# Altium footprint library Power.PcbLib: 17 footprints (part 1 of 2)
Each footprint in its own frame and in the unit in brackets; x right, y up, seen from the top. Pads: shape width x height; smd on the part's side, far side on the other; paste and mask are expansions set on the pad; w line width, h text height; cw(c..) or ccw(c..) is an arc to the next point about the centre after c.
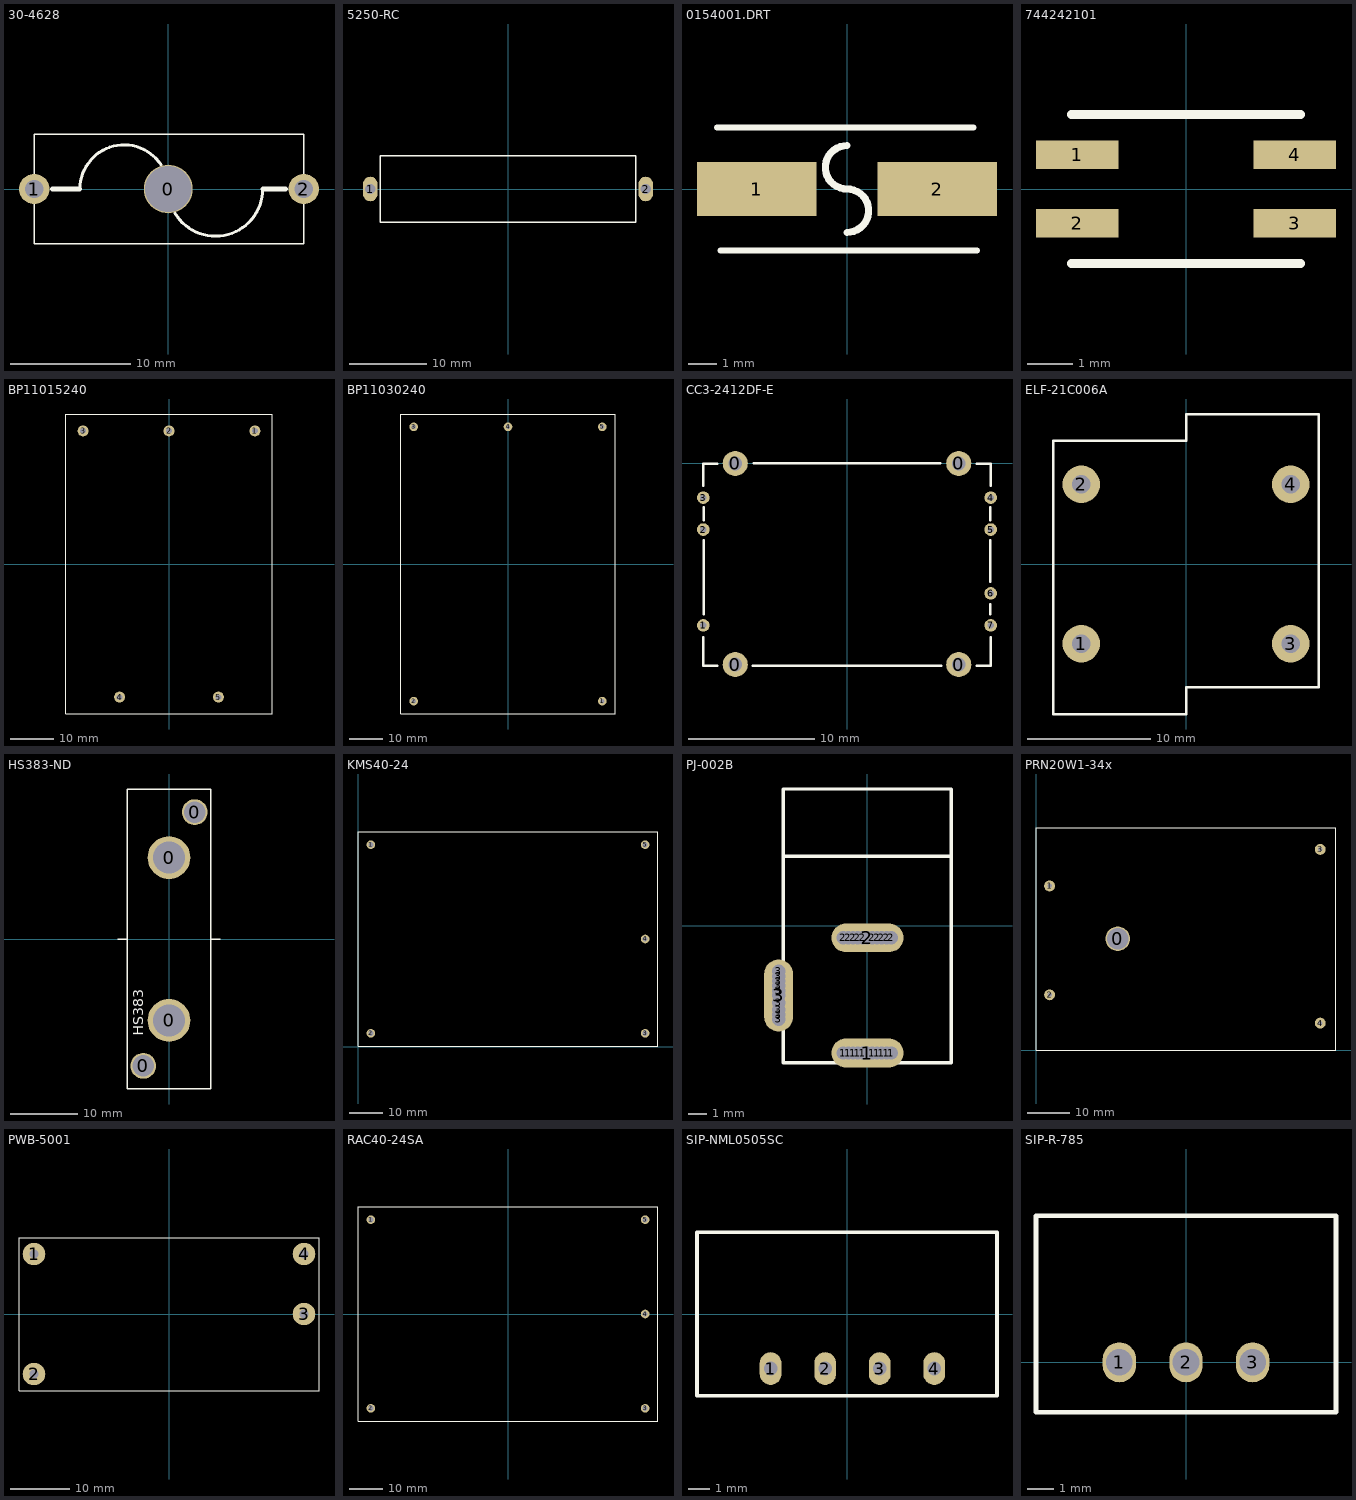
[diagram p0: the footprints below, top view; thin cyan lines are the x and y axes]

## 30-4628 [mil]
pads (3):
  round 160 / inner round 152 / far side round 160 hole 152: 0(0,0)
  round 100 / inner round 60 / far side round 100 hole 60: 1(-440,0) 2(445,0)
TopOverlay:
  lines w5: -440,-180 445,-180 445,180 -440,180 -440,-180
  lines w10: -290,0 cw(c-145,0) -23.55,79.21 ; 21.66,-79.02 ccw(c155,0) 310,0
  lines w15: -380,0 -290,0 ; 310,0 385,0

## 5250-RC [mil] "Choke"
height 340
pads (2):
  oval 75x125 hole 52: 1(-700,0) 2(700,0)
TopOverlay:
  lines w8: -650,-170 -650,170 650,170 650,-170 -650,-170

## 0154001.DRT [mil]
pads (2):
  rect 165x75 smd: 1(-125,0) 2(125,0)
TopOverlay:
  lines w8: -180,85 175,85 ; -175,-85 180,-85
  lines w10: 0,-60 ccw(c0,-30) 0,0 cw(c0,30) 0,60
3D body: height 147.51, standoff 1.84, extent -190.94,-98.42 190.95,98.43

## 744242101 [mil] "Common Mode Choke"
height 130
pads (4):
  rect 72x25 smd: 1(-95,30) 2(-95,-30) 3(95,-30) 4(95,30)
TopOverlay:
  lines w8: -100,-65 100,-65 ; -100,65 100,65

## BP11015240 [mil]
pads (5):
  round 100 / inner round 52 / far side round 100 hole 52: 1(788,1220) 2(0,1220) 3(-788,1220) 4(-453,-1220) 5(453,-1220)
TopOverlay:
  lines w7: -945,-1375 -945,1375 945,1375 945,-1375 -945,-1375

## BP11030240 [mil]
pads (5):
  round 100 / inner round 52 / far side round 100 hole 52: 1(1100,-1600) 2(-1100,-1600) 3(-1100,1600) 4(0,1600) 5(1100,1600)
TopOverlay:
  lines w7: -1250,-1750 -1250,1750 1250,1750 1250,-1750 -1250,-1750

## CC3-2412DF-E [mm]
pads (11):
  round 2 hole 1.1: 0(-8.89,-16) 0(-8.89,0) 0(8.89,-16) 0(8.89,0)
  round 1 hole 0.5: 1(-11.43,-12.88) 2(-11.43,-5.26) 3(-11.43,-2.72) 4(11.43,-2.72) 5(11.43,-5.26) 6(11.43,-10.34) 7(11.43,-12.88)
TopOverlay:
  lines w0.203: -11.43,-13.83 -11.43,-16.08 -10.32,-16.08 ; -11.43,-1.77 -11.43,-0.02 -10.32,-0.02 ; -11.4,-12 -11.4,-6.1 ; -11.4,-4.5 -11.4,-3.5 ; -7.5,-16.1 0,-16.1 7.5,-16.1 ; -7.4,0 0,0 7.4,0 ; 10.32,-16.08 11.43,-16.08 11.43,-13.83 ; 10.32,-0.02 11.43,-0.02 11.43,-1.77 ; 11.4,-12 11.4,-11.2 ; 11.4,-9.4 11.4,-6.1 ; 11.4,-4.5 11.4,-3.5

## ELF-21C006A [mil] "Inductor Common Mode"
height 700
pads (4):
  round 120 / inner round 60 / far side round 120 hole 60: 1(-335,-255) 2(-335,255) 3(335,-255) 4(335,255)
TopOverlay:
  lines w8: -425,-480 -425,0 -425,395 0,395 0,480 425,480 425,0 425,-395 0,-395 0,-480 -425,-480

## HS383-ND [mil]
pads (4):
  round 150 / inner round 125 / far side round 150 hole 125: 0(-150,-740) 0(150,740)
  round 250 / inner round 187 / far side round 250 hole 187: 0(0,-475) 0(0,475)
TopOverlay:
  lines w8: -300,0 -245,0 ; 245,0 300,0 ; -245,-875 -245,875 245,875 245,-875 -245,-875
  text "HS383" at -150,-565 h60

## KMS40-24 [mil] "AC to 24VDC, 40W power supply"
height 1.09
pads (5):
  round 100 hole 60: 1(150,2360) 2(150,160) 3(3350,160) 4(3350,1260) 5(3350,2360)
TopOverlay:
  lines w8: 0,10 0,2510 3500,2510 3500,10 0,10

## PJ-002B [mil]
pads (32):
  round 28 hole 28: 1(-50,-265) 1(-40,-265) 1(-30,-265) 1(-20,-265) 1(-10,-265) 1(10,-265) 1(20,-265) 1(30,-265) 1(40,-265) 1(50,-265) 2(-50,-25) 2(-40,-25) 2(-30,-25) 2(-20,-25) 2(-10,-25) 2(10,-25) 2(20,-25) 2(30,-25) 2(40,-25) 2(50,-25) 3(-185,-195) 3(-185,-185) 3(-185,-175) 3(-185,-160) 3(-185,-135) 3(-185,-125) 3(-185,-115) 3(-185,-105) 3(-185,-95)
  oval 150x60 / inner oval 130x28 / far side oval 150x60 hole 28: 1(0,-265) 2(0,-25)
  oval 60x150 / inner oval 28x130 / far side oval 60x150 hole 28: 3(-185,-145)
TopOverlay:
  lines w7: -175,145 175,145 ; -175,145 -175,-285 175,-285 175,145 ; -175,145 -175,285 175,285 175,145

## PRN20W1-34x [mil]
pads (5):
  round 225 / inner round 200 / far side round 250 hole 200: 0(750,1025)
  round 100 / inner round 42 / far side round 100 hole 42: 1(125,1510) 2(125,510) 3(2610,1845) 4(2610,250)
TopOverlay:
  lines w8: 0,0 2755,0 2755,2045 0,2045 0,0

## PWB-5001 [mil] "AC - 5VDC regulator"
height 600
pads (4):
  round 150 hole 60: 1(-900,400) 2(-900,-400) 3(900,0) 4(900,400)
TopOverlay:
  lines w8: -1000,-510 -1000,510 1000,510 1000,-510 -1000,-510

## RAC40-24SA [mil]
height 1.09
pads (5):
  round 100 / inner round 60 / far side round 100 hole 60: 1(-1600,1100) 2(-1600,-1100) 3(1600,-1100) 4(1600,0) 5(1600,1100)
TopOverlay:
  lines w8: -1750,-1250 -1750,1235 -1750,1250 1750,1250 1750,-1250 -1750,-1250

## SIP-NML0505SC [mil]
height 395
pads (4):
  oval 40x60 hole 25: 1(-140,-100) 2(-40,-100) 3(60,-100) 4(160,-100)
TopOverlay:
  lines w7: -275,-150 -275,150 275,150 275,-150 -275,-150

## SIP-R-785 [mil]
pads (3):
  oval 50x60 hole 40: 1(-100,0) 2(0,0) 3(100,0)
TopOverlay:
  lines w7: -225,-75 225,-75 225,220 -225,220 -225,-75
3D body: height 401.57, standoff -161.42, extent -230.31,-79.21 230.31,220